# Altium schematic symbol library Schlib1.SchLib: 8 symbols
Pins are listed as number, name and electrical type; pins without a type are passive.

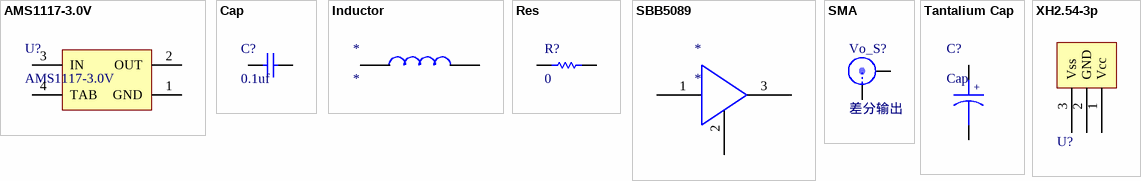
[diagram p0: symbols AMS1117-3.0V to XH2.54-3p]

## AMS1117-3.0V
designator U?
footprint SOT-223
pins: 1 GND (power), 2 OUT (power), 3 IN (power), 4 TAB (power)

## Cap
designator C?, comment 0.1uf
footprint 0805
footprint 0603C
pins: 1, 2

## Inductor
designator *
footprint 0805
pins: 1, 2

## Res
designator R?, comment 0
footprint 0805
footprint 0603R
pins: 1, 2

## SBB5089
designator *
footprint SOT-89
pins: 1 IN, 2 GND, 3 OUT

## SMA
designator Vo_S?, comment 差分输出
footprint SMA Angle
pins: 0, 1

## Tantalium Cap
designator C?, comment Cap
footprint 3216C-TYPE_A
pins: 1, 2
text: +

## XH2.54-3p
designator U?  (value not drawn)
footprint XH2.54-3p
pins: 1 Vcc, 2 GND, 3 Vss